# Altium integrated library Analog Devices Data Converters Analog-to-Digital Converters.IntLib: 2400 symbols (part 253 of 338)
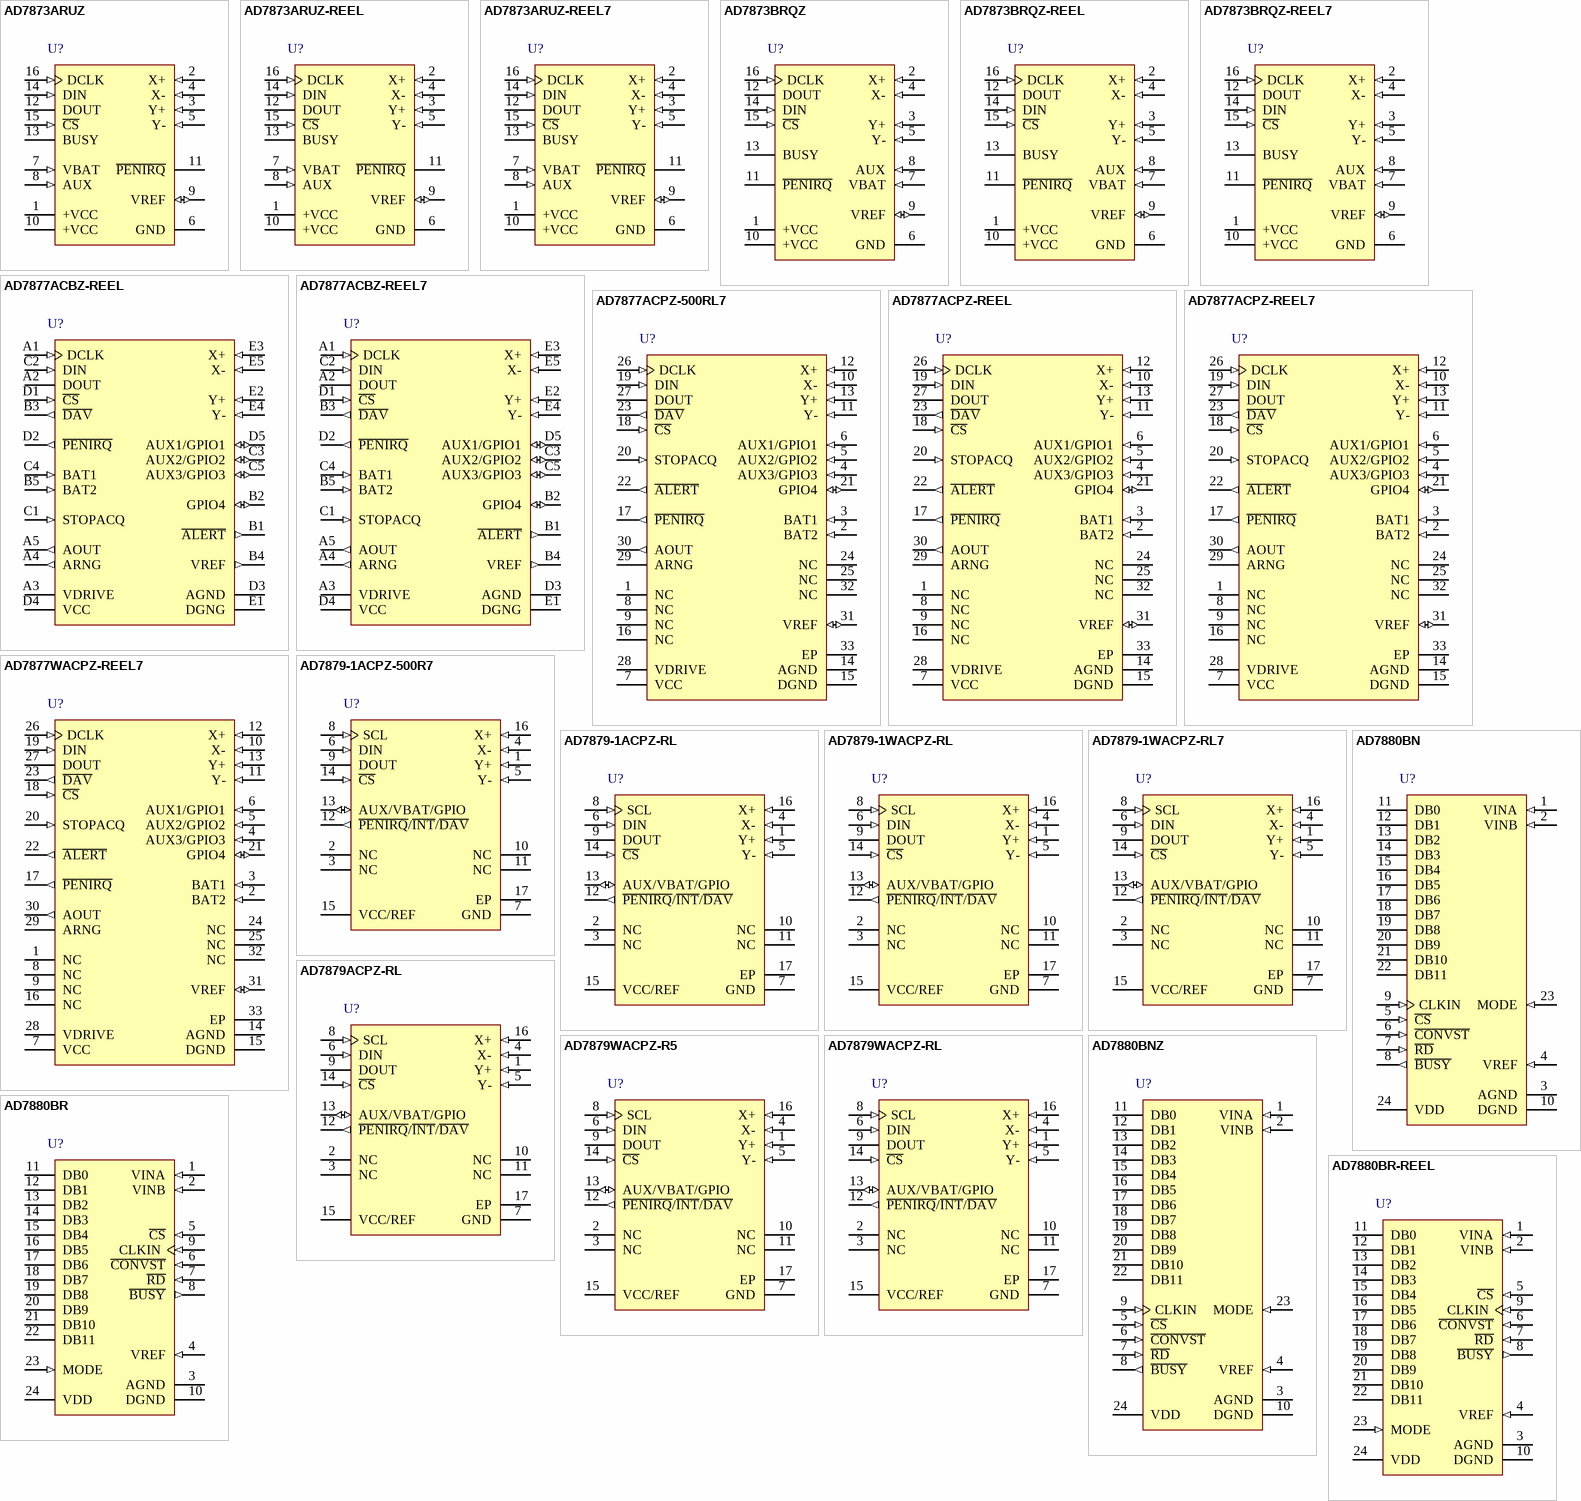
[diagram p292: symbols AD7873ARUZ to AD7880BR-REEL]

## AD7877ACPZ-REEL
designator U?
Touch Screen Controller, 125KSPS, -40 to +85 degC, CP-32-2, Pb-Free, Reel; Part Number: AD7877; Manufacturer: Analog Devices; Resolution (Bits): 12; Channels: 9; Throughput Rate (SPS): 125K; Interface: Ser; DatasheetVersion: Rev.D; PackageVersion: Jan-2005; PackageReference: CP-32-2; PackageDescription: 32-Lead Lead Frame Chip Scale Package [LFCSP_VQ] 5 x 5 mm Body, Very Thin Quad; RoHS: Y; Packing: Reel; Mounting Technology: Surface Mount; Code_JEDEC: MO-220-VHHD-2; ComponentLink1Description: Manufacturer URL; ComponentLink1URL: http://www.analog.com/en/index.html; ComponentLink2Description: Datasheet; ComponentLink2URL: http://www.analog.com/static/imported-files/data_sheets/AD7877.pdf; ComponentLink3Description: Package Specification; ComponentLink3URL: http://www.analog.com/static/imported-files/packages/414143737956480539664569CP_32_2.pdf; ComponentLink4Description: Product URL; ComponentLink4URL: http://www.analog.com/en/analog-to-digital-converters/ad-converters/ad7877/products/product.html
footprint CP-32-2_N (QFN, 32-Leads, Body 5x5mm, Pitch 0.5mm, Thermal Pad 3.1x3.1mm, IPC Medium Density)
footprint CP-32-2_L (QFN, 32-Leads, Body 5x5mm, Pitch 0.5mm, Thermal Pad 3.1x3.1mm, IPC High Density)
footprint CP-32-2_M (QFN, 32-Leads, Body 5x5mm, Pitch 0.5mm, Thermal Pad 3.1x3.1mm, IPC Low Density)
pins: 1 NC "No Connect.", 2 BAT2 (in) "Battery Monitor Input. ADC Input Channel 7.", 3 BAT1 (in) "Battery Monitor Input. ADC Input Channel 6.", 4 AUX3/GPIO3 (in) "Auxiliary Analog Input. ADC Input Channel 5. Can be reconfigured as GPIO pin.", 5 AUX2/GPIO2 (in) "Auxiliary Analog Input. ADC Input Channel 4. Can be reconfigured as GPIO pin.", 6 AUX1/GPIO1 (in) "Auxiliary Analog Input. ADC Input Channel 3. Can be reconfigured as GPIO pin.", 7 VCC (power) "Power Supply Input. The VCC range for the AD7877 is from 2.2 V to 5.25 V.", 8 NC "No Connect.", 9 NC "No Connect.", 10 X- (in) "Touch Screen Position Input.", 11 Y- (in) "Touch Screen Position Input. ADC Input Channel 2.", 12 X+ (in) "Touch Screen Position Input. ADC Input Channel 0.", 13 Y+ (in) "Touch Screen Position Input. ADC Input Channel 1.", 14 AGND (power) "Analog Ground. Ground reference point for all analog circuitry on the AD7877. All analog input signals and any external reference signal should be referred to this voltage.", 15 DGND (power) "Digital Ground. Ground reference for all digital circuitry on the AD7877. Refer all digital input signals to this voltage.", 16 NC "No Connect.", 17 ~{PENIRQ} (out) "Pen Interrupt. Digital active low output (has a 50 k ohm internal pull-up resistor).", 18 ~{CS} (in) "Chip Select Input. Active low logic input. This input provides the dual function of initiating conversions on the AD7877 and enabling the serial input/output register.", 19 DIN (in) "SPI® Serial Data Input. Data to be written to the AD7877 registers are provided on this input and clocked into the register on the rising edge of DCLK.", 20 STOPACQ (in) "Stop Acquisition Pin. A signal applied to this pin can be monitored by the AD7877, so that acquisition of new data by the ADC is halted while the signal is active. Used to reduce the effect of noise from an LCD screen on the (See Datasheet)", 21 GPIO4 (io) "Dedicated General-Purpose Logic Input/Output Pin.", 22 ~{ALERT} (out) "Digital Active Low Output. Interrupt output that goes low if a GPIO data bit is set, or if the AUX1, TEMP1, BAT1, or BAT2 measurements are out of range.", 23 ~{DAV} (out) "Data Available Output. Active low logic output. Asserts low when new data is available in the AD7877 results registers.", 24 NC "No Connect.", 25 NC "No Connect.", 26 DCLK (in) "External Clock Input. Logic input. DCLK provides the serial clock for accessing data from the part.", 27 DOUT (hiz) "Serial Data Output. Logic output. The conversion result from the AD7877 is provided on this output as a serial data stream. The bits are clocked out on the falling edge of the DCLK input. This output is high impedance when (See Datasheet)", 28 VDRIVE (power) "Logic Power Supply Input. The voltage supplied at this pin determines the operating voltage for the serial interface of the AD7877.", 29 ARNG "When the DAC is in current output mode, a resistor from ARNG to GND sets the output range.", 30 AOUT (out) "Analog Output Voltage or Current from DAC.", 31 VREF (io) "Reference Output for the AD7877. The internal 2.5 V reference is available on this pin for use external to the device. The reference output must be buffered before it is applied elsewhere in a system. To reduce system noise (See Datasheet)", 32 NC "No Connect.", 33 EP (power) "Exposed Paddle."

## AD7877ACPZ-REEL7
designator U?
Touch Screen Controller, 125KSPS, -40 to +85 degC, CP-32-2, Pb-Free, Reel; Part Number: AD7877; Manufacturer: Analog Devices; Resolution (Bits): 12; Channels: 9; Throughput Rate (SPS): 125K; Interface: Ser; DatasheetVersion: Rev.D; PackageVersion: Jan-2005; PackageReference: CP-32-2; PackageDescription: 32-Lead Lead Frame Chip Scale Package [LFCSP_VQ] 5 x 5 mm Body, Very Thin Quad; RoHS: Y; Packing: Reel; Mounting Technology: Surface Mount; Code_JEDEC: MO-220-VHHD-2; ComponentLink1Description: Manufacturer URL; ComponentLink1URL: http://www.analog.com/en/index.html; ComponentLink2Description: Datasheet; ComponentLink2URL: http://www.analog.com/static/imported-files/data_sheets/AD7877.pdf; ComponentLink3Description: Package Specification; ComponentLink3URL: http://www.analog.com/static/imported-files/packages/414143737956480539664569CP_32_2.pdf; ComponentLink4Description: Product URL; ComponentLink4URL: http://www.analog.com/en/analog-to-digital-converters/ad-converters/ad7877/products/product.html
footprint CP-32-2_N (QFN, 32-Leads, Body 5x5mm, Pitch 0.5mm, Thermal Pad 3.1x3.1mm, IPC Medium Density)
footprint CP-32-2_L (QFN, 32-Leads, Body 5x5mm, Pitch 0.5mm, Thermal Pad 3.1x3.1mm, IPC High Density)
footprint CP-32-2_M (QFN, 32-Leads, Body 5x5mm, Pitch 0.5mm, Thermal Pad 3.1x3.1mm, IPC Low Density)
pins: 1 NC "No Connect.", 2 BAT2 (in) "Battery Monitor Input. ADC Input Channel 7.", 3 BAT1 (in) "Battery Monitor Input. ADC Input Channel 6.", 4 AUX3/GPIO3 (in) "Auxiliary Analog Input. ADC Input Channel 5. Can be reconfigured as GPIO pin.", 5 AUX2/GPIO2 (in) "Auxiliary Analog Input. ADC Input Channel 4. Can be reconfigured as GPIO pin.", 6 AUX1/GPIO1 (in) "Auxiliary Analog Input. ADC Input Channel 3. Can be reconfigured as GPIO pin.", 7 VCC (power) "Power Supply Input. The VCC range for the AD7877 is from 2.2 V to 5.25 V.", 8 NC "No Connect.", 9 NC "No Connect.", 10 X- (in) "Touch Screen Position Input.", 11 Y- (in) "Touch Screen Position Input. ADC Input Channel 2.", 12 X+ (in) "Touch Screen Position Input. ADC Input Channel 0.", 13 Y+ (in) "Touch Screen Position Input. ADC Input Channel 1.", 14 AGND (power) "Analog Ground. Ground reference point for all analog circuitry on the AD7877. All analog input signals and any external reference signal should be referred to this voltage.", 15 DGND (power) "Digital Ground. Ground reference for all digital circuitry on the AD7877. Refer all digital input signals to this voltage.", 16 NC "No Connect.", 17 ~{PENIRQ} (out) "Pen Interrupt. Digital active low output (has a 50 k ohm internal pull-up resistor).", 18 ~{CS} (in) "Chip Select Input. Active low logic input. This input provides the dual function of initiating conversions on the AD7877 and enabling the serial input/output register.", 19 DIN (in) "SPI® Serial Data Input. Data to be written to the AD7877 registers are provided on this input and clocked into the register on the rising edge of DCLK.", 20 STOPACQ (in) "Stop Acquisition Pin. A signal applied to this pin can be monitored by the AD7877, so that acquisition of new data by the ADC is halted while the signal is active. Used to reduce the effect of noise from an LCD screen on the (See Datasheet)", 21 GPIO4 (io) "Dedicated General-Purpose Logic Input/Output Pin.", 22 ~{ALERT} (out) "Digital Active Low Output. Interrupt output that goes low if a GPIO data bit is set, or if the AUX1, TEMP1, BAT1, or BAT2 measurements are out of range.", 23 ~{DAV} (out) "Data Available Output. Active low logic output. Asserts low when new data is available in the AD7877 results registers.", 24 NC "No Connect.", 25 NC "No Connect.", 26 DCLK (in) "External Clock Input. Logic input. DCLK provides the serial clock for accessing data from the part.", 27 DOUT (hiz) "Serial Data Output. Logic output. The conversion result from the AD7877 is provided on this output as a serial data stream. The bits are clocked out on the falling edge of the DCLK input. This output is high impedance when (See Datasheet)", 28 VDRIVE (power) "Logic Power Supply Input. The voltage supplied at this pin determines the operating voltage for the serial interface of the AD7877.", 29 ARNG "When the DAC is in current output mode, a resistor from ARNG to GND sets the output range.", 30 AOUT (out) "Analog Output Voltage or Current from DAC.", 31 VREF (io) "Reference Output for the AD7877. The internal 2.5 V reference is available on this pin for use external to the device. The reference output must be buffered before it is applied elsewhere in a system. To reduce system noise (See Datasheet)", 32 NC "No Connect.", 33 EP (power) "Exposed Paddle."

## AD7877WACPZ-REEL7
designator U?
Touch Screen Controller, 125KSPS, -40 to +85 degC, CP-32-2, Pb-Free, Reel; Part Number: AD7877; Manufacturer: Analog Devices; Resolution (Bits): 12; Channels: 9; Throughput Rate (SPS): 125K; Interface: Ser; DatasheetVersion: Rev.D; PackageVersion: Jan-2005; PackageReference: CP-32-2; PackageDescription: 32-Lead Lead Frame Chip Scale Package [LFCSP_VQ] 5 x 5 mm Body, Very Thin Quad; RoHS: Y; Packing: Reel; Mounting Technology: Surface Mount; Code_JEDEC: MO-220-VHHD-2; ComponentLink1Description: Manufacturer URL; ComponentLink1URL: http://www.analog.com/en/index.html; ComponentLink2Description: Datasheet; ComponentLink2URL: http://www.analog.com/static/imported-files/data_sheets/AD7877.pdf; ComponentLink3Description: Package Specification; ComponentLink3URL: http://www.analog.com/static/imported-files/packages/414143737956480539664569CP_32_2.pdf; ComponentLink4Description: Product URL; ComponentLink4URL: http://www.analog.com/en/analog-to-digital-converters/ad-converters/ad7877/products/product.html
footprint CP-32-2_N (QFN, 32-Leads, Body 5x5mm, Pitch 0.5mm, Thermal Pad 3.1x3.1mm, IPC Medium Density)
footprint CP-32-2_L (QFN, 32-Leads, Body 5x5mm, Pitch 0.5mm, Thermal Pad 3.1x3.1mm, IPC High Density)
footprint CP-32-2_M (QFN, 32-Leads, Body 5x5mm, Pitch 0.5mm, Thermal Pad 3.1x3.1mm, IPC Low Density)
pins: 1 NC "No Connect.", 2 BAT2 (in) "Battery Monitor Input. ADC Input Channel 7.", 3 BAT1 (in) "Battery Monitor Input. ADC Input Channel 6.", 4 AUX3/GPIO3 (in) "Auxiliary Analog Input. ADC Input Channel 5. Can be reconfigured as GPIO pin.", 5 AUX2/GPIO2 (in) "Auxiliary Analog Input. ADC Input Channel 4. Can be reconfigured as GPIO pin.", 6 AUX1/GPIO1 (in) "Auxiliary Analog Input. ADC Input Channel 3. Can be reconfigured as GPIO pin.", 7 VCC (power) "Power Supply Input. The VCC range for the AD7877 is from 2.2 V to 5.25 V.", 8 NC "No Connect.", 9 NC "No Connect.", 10 X- (in) "Touch Screen Position Input.", 11 Y- (in) "Touch Screen Position Input. ADC Input Channel 2.", 12 X+ (in) "Touch Screen Position Input. ADC Input Channel 0.", 13 Y+ (in) "Touch Screen Position Input. ADC Input Channel 1.", 14 AGND (power) "Analog Ground. Ground reference point for all analog circuitry on the AD7877. All analog input signals and any external reference signal should be referred to this voltage.", 15 DGND (power) "Digital Ground. Ground reference for all digital circuitry on the AD7877. Refer all digital input signals to this voltage.", 16 NC "No Connect.", 17 ~{PENIRQ} (out) "Pen Interrupt. Digital active low output (has a 50 k ohm internal pull-up resistor).", 18 ~{CS} (in) "Chip Select Input. Active low logic input. This input provides the dual function of initiating conversions on the AD7877 and enabling the serial input/output register.", 19 DIN (in) "SPI® Serial Data Input. Data to be written to the AD7877 registers are provided on this input and clocked into the register on the rising edge of DCLK.", 20 STOPACQ (in) "Stop Acquisition Pin. A signal applied to this pin can be monitored by the AD7877, so that acquisition of new data by the ADC is halted while the signal is active. Used to reduce the effect of noise from an LCD screen on the (See Datasheet)", 21 GPIO4 (io) "Dedicated General-Purpose Logic Input/Output Pin.", 22 ~{ALERT} (out) "Digital Active Low Output. Interrupt output that goes low if a GPIO data bit is set, or if the AUX1, TEMP1, BAT1, or BAT2 measurements are out of range.", 23 ~{DAV} (out) "Data Available Output. Active low logic output. Asserts low when new data is available in the AD7877 results registers.", 24 NC "No Connect.", 25 NC "No Connect.", 26 DCLK (in) "External Clock Input. Logic input. DCLK provides the serial clock for accessing data from the part.", 27 DOUT (hiz) "Serial Data Output. Logic output. The conversion result from the AD7877 is provided on this output as a serial data stream. The bits are clocked out on the falling edge of the DCLK input. This output is high impedance when (See Datasheet)", 28 VDRIVE (power) "Logic Power Supply Input. The voltage supplied at this pin determines the operating voltage for the serial interface of the AD7877.", 29 ARNG "When the DAC is in current output mode, a resistor from ARNG to GND sets the output range.", 30 AOUT (out) "Analog Output Voltage or Current from DAC.", 31 VREF (io) "Reference Output for the AD7877. The internal 2.5 V reference is available on this pin for use external to the device. The reference output must be buffered before it is applied elsewhere in a system. To reduce system noise (See Datasheet)", 32 NC "No Connect.", 33 EP (power) "Exposed Paddle."

## AD7879-1ACPZ-500R7
designator U?
6 Channel 12-Bit Analog-to-Digital Converter for Touch Screens with I2C/Ser 2-Wire, Serial, SPI Interface, 105KSPS, -40 to +85 degC, CP-16-10, Pb-Free, Reel; Part Number: AD7879; Manufacturer: Analog Devices; Resolution (Bits): 12; Channels: 6; Throughput Rate (SPS): 105K; Interface: I2C/Ser 2-Wire, Ser, SPI; DatasheetVersion: Rev.C; PackageVersion: 010606-0; PackageReference: CP-16-10; PackageDescription: 16-Lead Lead Frame Chip Scale Package [LFCSP_VQ] 4 x 4 mm Body, Very Thin Quad; RoHS: Y; Packing: Reel; Mounting Technology: Surface Mount; Code_JEDEC: MO-220-VGGC; ComponentLink1Description: Manufacturer URL; ComponentLink1URL: http://www.analog.com/en/index.html; ComponentLink2Description: Datasheet; ComponentLink2URL: http://www.analog.com/static/imported-files/data_sheets/AD7879_7889.pdf; ComponentLink3Description: Package Specification; ComponentLink3URL: http://www.analog.com/static/imported-files/packages/PKG_PDF/LFCSP(CP)/CP_16_10.pdf; ComponentLink4Description: Product URL; ComponentLink4URL: http://www.analog.com/en/analog-to-digital-converters/ad-converters/ad7879/products/product.html
footprint CP-16-10_N (QFN, 16-Leads, Body 4x4mm, Pitch 0.65mm, Thermal Pad 2.35x2.35mm, IPC Medium Density)
footprint CP-16-10_L (QFN, 16-Leads, Body 4x4mm, Pitch 0.65mm, Thermal Pad 2.35x2.35mm, IPC High Density)
footprint CP-16-10_M (QFN, 16-Leads, Body 4x4mm, Pitch 0.65mm, Thermal Pad 2.35x2.35mm, IPC Low Density)
pins: 1 Y+ (in) "Touch Screen Input Channel.", 2 NC "No Connect.", 3 NC "No Connect.", 4 X- (in) "Touch Screen Input Channel.", 5 Y- (in) "Touch Screen Input Channel.", 6 DIN (in) "SPI Serial Data Input to the AD7879.", 7 GND (power) "Ground. Ground reference point for all circuitry on the AD7879. All analog input signals and any external reference signal should be referred to this voltage.", 8 SCL (in) "Serial Interface Clock Input.", 9 DOUT (hiz) "SPI Serial Data Output for the AD7879.", 10 NC "No Connect.", 11 NC "No Connect.", 12 ~{PENIRQ}/~{INT}/~{DAV} (out) "Interrupt Output. This pin is asserted when the screen is touched (P\E\N\I\R\Q\), when a measurement exceeds the preprogrammed limits (I\N\T\), or when new data is available in the registers (D\A\V\). Active low, internal 50 (See Datasheet)", 13 AUX/VBAT/GPIO (io) "This pin can be programmed as an auxiliary input to the ADC (AUX), as a battery measurement input to the ADC (VBAT ), or as a general-purpose digital input/output (GPIO).", 14 ~{CS} (in) "Chip Select for the SPI Serial Interface on the AD7879. Active low.", 15 VCC/REF (power) "Power Supply Input and ADC Reference.", 16 X+ (in) "Touch Screen Input Channel.", 17 EP (power) "Exposed Pad. The exposed pad is not connected internally. For increased reliability of the solder joints and maximum thermal capability, it is recommended that the pad be soldered to the ground plane."

## AD7879-1ACPZ-RL
designator U?
6 Channel 12-Bit Analog-to-Digital Converter for Touch Screens with I2C/Ser 2-Wire, Serial, SPI Interface, 105KSPS, -40 to +85 degC, CP-16-10, Pb-Free, Reel; Part Number: AD7879; Manufacturer: Analog Devices; Resolution (Bits): 12; Channels: 6; Throughput Rate (SPS): 105K; Interface: I2C/Ser 2-Wire, Ser, SPI; DatasheetVersion: Rev.C; PackageVersion: 010606-0; PackageReference: CP-16-10; PackageDescription: 16-Lead Lead Frame Chip Scale Package [LFCSP_VQ] 4 x 4 mm Body, Very Thin Quad; RoHS: Y; Packing: Reel; Mounting Technology: Surface Mount; Code_JEDEC: MO-220-VGGC; ComponentLink1Description: Manufacturer URL; ComponentLink1URL: http://www.analog.com/en/index.html; ComponentLink2Description: Datasheet; ComponentLink2URL: http://www.analog.com/static/imported-files/data_sheets/AD7879_7889.pdf; ComponentLink3Description: Package Specification; ComponentLink3URL: http://www.analog.com/static/imported-files/packages/PKG_PDF/LFCSP(CP)/CP_16_10.pdf; ComponentLink4Description: Product URL; ComponentLink4URL: http://www.analog.com/en/analog-to-digital-converters/ad-converters/ad7879/products/product.html
footprint CP-16-10_N (QFN, 16-Leads, Body 4x4mm, Pitch 0.65mm, Thermal Pad 2.35x2.35mm, IPC Medium Density)
footprint CP-16-10_L (QFN, 16-Leads, Body 4x4mm, Pitch 0.65mm, Thermal Pad 2.35x2.35mm, IPC High Density)
footprint CP-16-10_M (QFN, 16-Leads, Body 4x4mm, Pitch 0.65mm, Thermal Pad 2.35x2.35mm, IPC Low Density)
pins: 1 Y+ (in) "Touch Screen Input Channel.", 2 NC "No Connect.", 3 NC "No Connect.", 4 X- (in) "Touch Screen Input Channel.", 5 Y- (in) "Touch Screen Input Channel.", 6 DIN (in) "SPI Serial Data Input to the AD7879.", 7 GND (power) "Ground. Ground reference point for all circuitry on the AD7879. All analog input signals and any external reference signal should be referred to this voltage.", 8 SCL (in) "Serial Interface Clock Input.", 9 DOUT (hiz) "SPI Serial Data Output for the AD7879.", 10 NC "No Connect.", 11 NC "No Connect.", 12 ~{PENIRQ}/~{INT}/~{DAV} (out) "Interrupt Output. This pin is asserted when the screen is touched (P\E\N\I\R\Q\), when a measurement exceeds the preprogrammed limits (I\N\T\), or when new data is available in the registers (D\A\V\). Active low, internal 50 (See Datasheet)", 13 AUX/VBAT/GPIO (io) "This pin can be programmed as an auxiliary input to the ADC (AUX), as a battery measurement input to the ADC (VBAT ), or as a general-purpose digital input/output (GPIO).", 14 ~{CS} (in) "Chip Select for the SPI Serial Interface on the AD7879. Active low.", 15 VCC/REF (power) "Power Supply Input and ADC Reference.", 16 X+ (in) "Touch Screen Input Channel.", 17 EP (power) "Exposed Pad. The exposed pad is not connected internally. For increased reliability of the solder joints and maximum thermal capability, it is recommended that the pad be soldered to the ground plane."

## AD7879-1WACPZ-RL
designator U?
6 Channel 12-Bit Analog-to-Digital Converter for Touch Screens with I2C/Ser 2-Wire, Serial, SPI Interface, 105KSPS, -40 to +85 degC, CP-16-10, Pb-Free, Reel; Part Number: AD7879; Manufacturer: Analog Devices; Resolution (Bits): 12; Channels: 6; Throughput Rate (SPS): 105K; Interface: I2C/Ser 2-Wire, Ser, SPI; DatasheetVersion: Rev.C; PackageVersion: 010606-0; PackageReference: CP-16-10; PackageDescription: 16-Lead Lead Frame Chip Scale Package [LFCSP_VQ] 4 x 4 mm Body, Very Thin Quad; RoHS: Y; Packing: Reel; Mounting Technology: Surface Mount; Code_JEDEC: MO-220-VGGC; ComponentLink1Description: Manufacturer URL; ComponentLink1URL: http://www.analog.com/en/index.html; ComponentLink2Description: Datasheet; ComponentLink2URL: http://www.analog.com/static/imported-files/data_sheets/AD7879_7889.pdf; ComponentLink3Description: Package Specification; ComponentLink3URL: http://www.analog.com/static/imported-files/packages/PKG_PDF/LFCSP(CP)/CP_16_10.pdf; ComponentLink4Description: Product URL; ComponentLink4URL: http://www.analog.com/en/analog-to-digital-converters/ad-converters/ad7879/products/product.html
footprint CP-16-10_N (QFN, 16-Leads, Body 4x4mm, Pitch 0.65mm, Thermal Pad 2.35x2.35mm, IPC Medium Density)
footprint CP-16-10_L (QFN, 16-Leads, Body 4x4mm, Pitch 0.65mm, Thermal Pad 2.35x2.35mm, IPC High Density)
footprint CP-16-10_M (QFN, 16-Leads, Body 4x4mm, Pitch 0.65mm, Thermal Pad 2.35x2.35mm, IPC Low Density)
pins: 1 Y+ (in) "Touch Screen Input Channel.", 2 NC "No Connect.", 3 NC "No Connect.", 4 X- (in) "Touch Screen Input Channel.", 5 Y- (in) "Touch Screen Input Channel.", 6 DIN (in) "SPI Serial Data Input to the AD7879.", 7 GND (power) "Ground. Ground reference point for all circuitry on the AD7879. All analog input signals and any external reference signal should be referred to this voltage.", 8 SCL (in) "Serial Interface Clock Input.", 9 DOUT (hiz) "SPI Serial Data Output for the AD7879.", 10 NC "No Connect.", 11 NC "No Connect.", 12 ~{PENIRQ}/~{INT}/~{DAV} (out) "Interrupt Output. This pin is asserted when the screen is touched (P\E\N\I\R\Q\), when a measurement exceeds the preprogrammed limits (I\N\T\), or when new data is available in the registers (D\A\V\). Active low, internal 50 (See Datasheet)", 13 AUX/VBAT/GPIO (io) "This pin can be programmed as an auxiliary input to the ADC (AUX), as a battery measurement input to the ADC (VBAT ), or as a general-purpose digital input/output (GPIO).", 14 ~{CS} (in) "Chip Select for the SPI Serial Interface on the AD7879. Active low.", 15 VCC/REF (power) "Power Supply Input and ADC Reference.", 16 X+ (in) "Touch Screen Input Channel.", 17 EP (power) "Exposed Pad. The exposed pad is not connected internally. For increased reliability of the solder joints and maximum thermal capability, it is recommended that the pad be soldered to the ground plane."

## AD7879-1WACPZ-RL7
designator U?
6 Channel 12-Bit Analog-to-Digital Converter for Touch Screens with I2C/Ser 2-Wire, Serial, SPI Interface, 105KSPS, -40 to +85 degC, CP-16-10, Pb-Free, Reel; Part Number: AD7879; Manufacturer: Analog Devices; Resolution (Bits): 12; Channels: 6; Throughput Rate (SPS): 105K; Interface: I2C/Ser 2-Wire, Ser, SPI; DatasheetVersion: Rev.C; PackageVersion: 010606-0; PackageReference: CP-16-10; PackageDescription: 16-Lead Lead Frame Chip Scale Package [LFCSP_VQ] 4 x 4 mm Body, Very Thin Quad; RoHS: Y; Packing: Reel; Mounting Technology: Surface Mount; Code_JEDEC: MO-220-VGGC; ComponentLink1Description: Manufacturer URL; ComponentLink1URL: http://www.analog.com/en/index.html; ComponentLink2Description: Datasheet; ComponentLink2URL: http://www.analog.com/static/imported-files/data_sheets/AD7879_7889.pdf; ComponentLink3Description: Package Specification; ComponentLink3URL: http://www.analog.com/static/imported-files/packages/PKG_PDF/LFCSP(CP)/CP_16_10.pdf; ComponentLink4Description: Product URL; ComponentLink4URL: http://www.analog.com/en/analog-to-digital-converters/ad-converters/ad7879/products/product.html
footprint CP-16-10_N (QFN, 16-Leads, Body 4x4mm, Pitch 0.65mm, Thermal Pad 2.35x2.35mm, IPC Medium Density)
footprint CP-16-10_L (QFN, 16-Leads, Body 4x4mm, Pitch 0.65mm, Thermal Pad 2.35x2.35mm, IPC High Density)
footprint CP-16-10_M (QFN, 16-Leads, Body 4x4mm, Pitch 0.65mm, Thermal Pad 2.35x2.35mm, IPC Low Density)
pins: 1 Y+ (in) "Touch Screen Input Channel.", 2 NC "No Connect.", 3 NC "No Connect.", 4 X- (in) "Touch Screen Input Channel.", 5 Y- (in) "Touch Screen Input Channel.", 6 DIN (in) "SPI Serial Data Input to the AD7879.", 7 GND (power) "Ground. Ground reference point for all circuitry on the AD7879. All analog input signals and any external reference signal should be referred to this voltage.", 8 SCL (in) "Serial Interface Clock Input.", 9 DOUT (hiz) "SPI Serial Data Output for the AD7879.", 10 NC "No Connect.", 11 NC "No Connect.", 12 ~{PENIRQ}/~{INT}/~{DAV} (out) "Interrupt Output. This pin is asserted when the screen is touched (P\E\N\I\R\Q\), when a measurement exceeds the preprogrammed limits (I\N\T\), or when new data is available in the registers (D\A\V\). Active low, internal 50 (See Datasheet)", 13 AUX/VBAT/GPIO (io) "This pin can be programmed as an auxiliary input to the ADC (AUX), as a battery measurement input to the ADC (VBAT ), or as a general-purpose digital input/output (GPIO).", 14 ~{CS} (in) "Chip Select for the SPI Serial Interface on the AD7879. Active low.", 15 VCC/REF (power) "Power Supply Input and ADC Reference.", 16 X+ (in) "Touch Screen Input Channel.", 17 EP (power) "Exposed Pad. The exposed pad is not connected internally. For increased reliability of the solder joints and maximum thermal capability, it is recommended that the pad be soldered to the ground plane."

## AD7879ACPZ-RL
designator U?
6 Channel 12-Bit Analog-to-Digital Converter for Touch Screens with I2C/Ser 2-Wire, Serial, SPI Interface, 105KSPS, -40 to +85 degC, CP-16-10, Pb-Free, Reel; Part Number: AD7879; Manufacturer: Analog Devices; Resolution (Bits): 12; Channels: 6; Throughput Rate (SPS): 105K; Interface: I2C/Ser 2-Wire, Ser, SPI; DatasheetVersion: Rev.C; PackageVersion: 010606-0; PackageReference: CP-16-10; PackageDescription: 16-Lead Lead Frame Chip Scale Package [LFCSP_VQ] 4 x 4 mm Body, Very Thin Quad; RoHS: Y; Packing: Reel; Mounting Technology: Surface Mount; Code_JEDEC: MO-220-VGGC; ComponentLink1Description: Manufacturer URL; ComponentLink1URL: http://www.analog.com/en/index.html; ComponentLink2Description: Datasheet; ComponentLink2URL: http://www.analog.com/static/imported-files/data_sheets/AD7879_7889.pdf; ComponentLink3Description: Package Specification; ComponentLink3URL: http://www.analog.com/static/imported-files/packages/PKG_PDF/LFCSP(CP)/CP_16_10.pdf; ComponentLink4Description: Product URL; ComponentLink4URL: http://www.analog.com/en/analog-to-digital-converters/ad-converters/ad7879/products/product.html
footprint CP-16-10_N (QFN, 16-Leads, Body 4x4mm, Pitch 0.65mm, Thermal Pad 2.35x2.35mm, IPC Medium Density)
footprint CP-16-10_L (QFN, 16-Leads, Body 4x4mm, Pitch 0.65mm, Thermal Pad 2.35x2.35mm, IPC High Density)
footprint CP-16-10_M (QFN, 16-Leads, Body 4x4mm, Pitch 0.65mm, Thermal Pad 2.35x2.35mm, IPC Low Density)
pins: 1 Y+ (in) "Touch Screen Input Channel.", 2 NC "No Connect.", 3 NC "No Connect.", 4 X- (in) "Touch Screen Input Channel.", 5 Y- (in) "Touch Screen Input Channel.", 6 DIN (in) "SPI Serial Data Input to the AD7879.", 7 GND (power) "Ground. Ground reference point for all circuitry on the AD7879. All analog input signals and any external reference signal should be referred to this voltage.", 8 SCL (in) "Serial Interface Clock Input.", 9 DOUT (hiz) "SPI Serial Data Output for the AD7879.", 10 NC "No Connect.", 11 NC "No Connect.", 12 ~{PENIRQ}/~{INT}/~{DAV} (out) "Interrupt Output. This pin is asserted when the screen is touched (P\E\N\I\R\Q\), when a measurement exceeds the preprogrammed limits (I\N\T\), or when new data is available in the registers (D\A\V\). Active low, internal 50 (See Datasheet)", 13 AUX/VBAT/GPIO (io) "This pin can be programmed as an auxiliary input to the ADC (AUX), as a battery measurement input to the ADC (VBAT ), or as a general-purpose digital input/output (GPIO).", 14 ~{CS} (in) "Chip Select for the SPI Serial Interface on the AD7879. Active low.", 15 VCC/REF (power) "Power Supply Input and ADC Reference.", 16 X+ (in) "Touch Screen Input Channel.", 17 EP (power) "Exposed Pad. The exposed pad is not connected internally. For increased reliability of the solder joints and maximum thermal capability, it is recommended that the pad be soldered to the ground plane."

## AD7879WACPZ-R5
designator U?
6 Channel 12-Bit Analog-to-Digital Converter for Touch Screens with I2C/Ser 2-Wire, Serial, SPI Interface, 105KSPS, -40 to +85 degC, CP-16-10, Pb-Free, Reel; Part Number: AD7879; Manufacturer: Analog Devices; Resolution (Bits): 12; Channels: 6; Throughput Rate (SPS): 105K; Interface: I2C/Ser 2-Wire, Ser, SPI; DatasheetVersion: Rev.C; PackageVersion: 010606-0; PackageReference: CP-16-10; PackageDescription: 16-Lead Lead Frame Chip Scale Package [LFCSP_VQ] 4 x 4 mm Body, Very Thin Quad; RoHS: Y; Packing: Reel; Mounting Technology: Surface Mount; Code_JEDEC: MO-220-VGGC; ComponentLink1Description: Manufacturer URL; ComponentLink1URL: http://www.analog.com/en/index.html; ComponentLink2Description: Datasheet; ComponentLink2URL: http://www.analog.com/static/imported-files/data_sheets/AD7879_7889.pdf; ComponentLink3Description: Package Specification; ComponentLink3URL: http://www.analog.com/static/imported-files/packages/PKG_PDF/LFCSP(CP)/CP_16_10.pdf; ComponentLink4Description: Product URL; ComponentLink4URL: http://www.analog.com/en/analog-to-digital-converters/ad-converters/ad7879/products/product.html
footprint CP-16-10_N (QFN, 16-Leads, Body 4x4mm, Pitch 0.65mm, Thermal Pad 2.35x2.35mm, IPC Medium Density)
footprint CP-16-10_L (QFN, 16-Leads, Body 4x4mm, Pitch 0.65mm, Thermal Pad 2.35x2.35mm, IPC High Density)
footprint CP-16-10_M (QFN, 16-Leads, Body 4x4mm, Pitch 0.65mm, Thermal Pad 2.35x2.35mm, IPC Low Density)
pins: 1 Y+ (in) "Touch Screen Input Channel.", 2 NC "No Connect.", 3 NC "No Connect.", 4 X- (in) "Touch Screen Input Channel.", 5 Y- (in) "Touch Screen Input Channel.", 6 DIN (in) "SPI Serial Data Input to the AD7879.", 7 GND (power) "Ground. Ground reference point for all circuitry on the AD7879. All analog input signals and any external reference signal should be referred to this voltage.", 8 SCL (in) "Serial Interface Clock Input.", 9 DOUT (hiz) "SPI Serial Data Output for the AD7879.", 10 NC "No Connect.", 11 NC "No Connect.", 12 ~{PENIRQ}/~{INT}/~{DAV} (out) "Interrupt Output. This pin is asserted when the screen is touched (P\E\N\I\R\Q\), when a measurement exceeds the preprogrammed limits (I\N\T\), or when new data is available in the registers (D\A\V\). Active low, internal 50 (See Datasheet)", 13 AUX/VBAT/GPIO (io) "This pin can be programmed as an auxiliary input to the ADC (AUX), as a battery measurement input to the ADC (VBAT ), or as a general-purpose digital input/output (GPIO).", 14 ~{CS} (in) "Chip Select for the SPI Serial Interface on the AD7879. Active low.", 15 VCC/REF (power) "Power Supply Input and ADC Reference.", 16 X+ (in) "Touch Screen Input Channel.", 17 EP (power) "Exposed Pad. The exposed pad is not connected internally. For increased reliability of the solder joints and maximum thermal capability, it is recommended that the pad be soldered to the ground plane."

## AD7879WACPZ-RL
designator U?
6 Channel 12-Bit Analog-to-Digital Converter for Touch Screens with I2C/Ser 2-Wire, Serial, SPI Interface, 105KSPS, -40 to +85 degC, CP-16-10, Pb-Free, Reel; Part Number: AD7879; Manufacturer: Analog Devices; Resolution (Bits): 12; Channels: 6; Throughput Rate (SPS): 105K; Interface: I2C/Ser 2-Wire, Ser, SPI; DatasheetVersion: Rev.C; PackageVersion: 010606-0; PackageReference: CP-16-10; PackageDescription: 16-Lead Lead Frame Chip Scale Package [LFCSP_VQ] 4 x 4 mm Body, Very Thin Quad; RoHS: Y; Packing: Reel; Mounting Technology: Surface Mount; Code_JEDEC: MO-220-VGGC; ComponentLink1Description: Manufacturer URL; ComponentLink1URL: http://www.analog.com/en/index.html; ComponentLink2Description: Datasheet; ComponentLink2URL: http://www.analog.com/static/imported-files/data_sheets/AD7879_7889.pdf; ComponentLink3Description: Package Specification; ComponentLink3URL: http://www.analog.com/static/imported-files/packages/PKG_PDF/LFCSP(CP)/CP_16_10.pdf; ComponentLink4Description: Product URL; ComponentLink4URL: http://www.analog.com/en/analog-to-digital-converters/ad-converters/ad7879/products/product.html
footprint CP-16-10_N (QFN, 16-Leads, Body 4x4mm, Pitch 0.65mm, Thermal Pad 2.35x2.35mm, IPC Medium Density)
footprint CP-16-10_L (QFN, 16-Leads, Body 4x4mm, Pitch 0.65mm, Thermal Pad 2.35x2.35mm, IPC High Density)
footprint CP-16-10_M (QFN, 16-Leads, Body 4x4mm, Pitch 0.65mm, Thermal Pad 2.35x2.35mm, IPC Low Density)
pins: 1 Y+ (in) "Touch Screen Input Channel.", 2 NC "No Connect.", 3 NC "No Connect.", 4 X- (in) "Touch Screen Input Channel.", 5 Y- (in) "Touch Screen Input Channel.", 6 DIN (in) "SPI Serial Data Input to the AD7879.", 7 GND (power) "Ground. Ground reference point for all circuitry on the AD7879. All analog input signals and any external reference signal should be referred to this voltage.", 8 SCL (in) "Serial Interface Clock Input.", 9 DOUT (hiz) "SPI Serial Data Output for the AD7879.", 10 NC "No Connect.", 11 NC "No Connect.", 12 ~{PENIRQ}/~{INT}/~{DAV} (out) "Interrupt Output. This pin is asserted when the screen is touched (P\E\N\I\R\Q\), when a measurement exceeds the preprogrammed limits (I\N\T\), or when new data is available in the registers (D\A\V\). Active low, internal 50 (See Datasheet)", 13 AUX/VBAT/GPIO (io) "This pin can be programmed as an auxiliary input to the ADC (AUX), as a battery measurement input to the ADC (VBAT ), or as a general-purpose digital input/output (GPIO).", 14 ~{CS} (in) "Chip Select for the SPI Serial Interface on the AD7879. Active low.", 15 VCC/REF (power) "Power Supply Input and ADC Reference.", 16 X+ (in) "Touch Screen Input Channel.", 17 EP (power) "Exposed Pad. The exposed pad is not connected internally. For increased reliability of the solder joints and maximum thermal capability, it is recommended that the pad be soldered to the ground plane."

## AD7880BN
designator U?
Single 12-Bit Sampling Low Power Analog-to-Digital Converter with Parallel Interface, LC2MOS, LC2MOS Single +5 V 66KSPS, -40 to +85 degC, N-24-1, Tube; Part Number: AD7880; Manufacturer: Analog Devices; Resolution (Bits): 12; Channels: 1; Throughput Rate (SPS): 66K; Interface: Par; DatasheetVersion: Rev.0; PackageVersion: 071006-A; PackageReference: N-24-1; PackageDescription: 24-Lead Plastic Dual In-Line Package [PDIP] Narrow Body; RoHS: N; Packing: Tube; Mounting Technology: Through-hole; Code_JEDEC: MS-001; ComponentLink1Description: Manufacturer URL; ComponentLink1URL: http://www.analog.com/en/index.html; ComponentLink2Description: Datasheet; ComponentLink2URL: http://www.analog.com/static/imported-files/data_sheets/AD7880.pdf; ComponentLink3Description: Package Specification; ComponentLink3URL: http://www.analog.com/static/imported-files/packages/50726455539629N_24_1.pdf; ComponentLink4Description: Product URL; ComponentLink4URL: http://www.analog.com/en/analog-to-digital-converters/ad-converters/ad7880/products/product.html
footprint N-24-1 (DIP, 24-Leads, Row Spacing 7.62mm, Pitch 2.54mm, Body 31.9x6.6mm)
pins: 1 VINA (in) "Analog Input.", 2 VINB (in) "Analog Input.", 3 AGND (power) "Analog Ground.", 4 VREF (in) "Voltage Reference Input. This is normally tied to VDD.", 5 ~{CS} (in) "Chip Select. Active Low Logic input. The device is selected when this input is active.", 6 ~{CONVST} (in) "Convert Start. A low to high transition on this input puts the track/hold into hold mode and starts conversion. This input is asynchronous to the CLKIN and is independent of C\S\ and R\D\.", 7 ~{RD} (in) "Read. Active Low Logic Input. This input is used in conjunction with C\S\ low to enable data outputs", 8 ~{BUSY} (out) "Active Low Logic Output. This status line indicates converter status. B\U\S\Y\ is low during conversion.", 9 CLKIN (in) "Clock Input. TTL-compatible logic input. Used as the clock source for the A/D converter. The mark/space ratio of the clock can vary from 40/60 to 60/40.", 10 DGND (power) "Digital Ground.", 11 DB0 (hiz) "Three-State Data Outputs. These become active when C\S\ and R\D\ are brought low.", 12 DB1 (hiz) "Three-State Data Outputs. These become active when C\S\ and R\D\ are brought low.", 13 DB2 (hiz) "Three-State Data Outputs. These become active when C\S\ and R\D\ are brought low.", 14 DB3 (hiz) "Three-State Data Outputs. These become active when C\S\ and R\D\ are brought low.", 15 DB4 (hiz) "Three-State Data Outputs. These become active when C\S\ and R\D\ are brought low.", 16 DB5 (hiz) "Three-State Data Outputs. These become active when C\S\ and R\D\ are brought low.", 17 DB6 (hiz) "Three-State Data Outputs. These become active when C\S\ and R\D\ are brought low.", 18 DB7 (hiz) "Three-State Data Outputs. These become active when C\S\ and R\D\ are brought low.", 19 DB8 (hiz) "Three-State Data Outputs. These become active when C\S\ and R\D\ are brought low.", 20 DB9 (hiz) "Three-State Data Outputs. These become active when C\S\ and R\D\ are brought low.", 21 DB10 (hiz) "Three-State Data Outputs. These become active when C\S\ and R\D\ are brought low.", 22 DB11 (hiz) "Three-State Data Outputs. These become active when C\S\ and R\D\ are brought low.", 23 MODE (in) "MODE Input. This input is used to put the device into the power save mode (MODE = 0 V). During normal operation, the MODE input will be a logic high (MODE = VDD).", 24 VDD (power) "Power Supply. This is nominally +5 V."

## AD7880BNZ
designator U?
Single 12-Bit Sampling Low Power Analog-to-Digital Converter with Parallel Interface, LC2MOS, LC2MOS Single +5 V 66KSPS, -40 to +85 degC, N-24-1, Pb-Free, Tube; Part Number: AD7880; Manufacturer: Analog Devices; Resolution (Bits): 12; Channels: 1; Throughput Rate (SPS): 66K; Interface: Par; DatasheetVersion: Rev.0; PackageVersion: 071006-A; PackageReference: N-24-1; PackageDescription: 24-Lead Plastic Dual In-Line Package [PDIP] Narrow Body; RoHS: Y; Packing: Tube; Mounting Technology: Through-hole; Code_JEDEC: MS-001; ComponentLink1Description: Manufacturer URL; ComponentLink1URL: http://www.analog.com/en/index.html; ComponentLink2Description: Datasheet; ComponentLink2URL: http://www.analog.com/static/imported-files/data_sheets/AD7880.pdf; ComponentLink3Description: Package Specification; ComponentLink3URL: http://www.analog.com/static/imported-files/packages/50726455539629N_24_1.pdf; ComponentLink4Description: Product URL; ComponentLink4URL: http://www.analog.com/en/analog-to-digital-converters/ad-converters/ad7880/products/product.html
footprint N-24-1 (DIP, 24-Leads, Row Spacing 7.62mm, Pitch 2.54mm, Body 31.9x6.6mm)
pins: 1 VINA (in) "Analog Input.", 2 VINB (in) "Analog Input.", 3 AGND (power) "Analog Ground.", 4 VREF (in) "Voltage Reference Input. This is normally tied to VDD.", 5 ~{CS} (in) "Chip Select. Active Low Logic input. The device is selected when this input is active.", 6 ~{CONVST} (in) "Convert Start. A low to high transition on this input puts the track/hold into hold mode and starts conversion. This input is asynchronous to the CLKIN and is independent of C\S\ and R\D\.", 7 ~{RD} (in) "Read. Active Low Logic Input. This input is used in conjunction with C\S\ low to enable data outputs", 8 ~{BUSY} (out) "Active Low Logic Output. This status line indicates converter status. B\U\S\Y\ is low during conversion.", 9 CLKIN (in) "Clock Input. TTL-compatible logic input. Used as the clock source for the A/D converter. The mark/space ratio of the clock can vary from 40/60 to 60/40.", 10 DGND (power) "Digital Ground.", 11 DB0 (hiz) "Three-State Data Outputs. These become active when C\S\ and R\D\ are brought low.", 12 DB1 (hiz) "Three-State Data Outputs. These become active when C\S\ and R\D\ are brought low.", 13 DB2 (hiz) "Three-State Data Outputs. These become active when C\S\ and R\D\ are brought low.", 14 DB3 (hiz) "Three-State Data Outputs. These become active when C\S\ and R\D\ are brought low.", 15 DB4 (hiz) "Three-State Data Outputs. These become active when C\S\ and R\D\ are brought low.", 16 DB5 (hiz) "Three-State Data Outputs. These become active when C\S\ and R\D\ are brought low.", 17 DB6 (hiz) "Three-State Data Outputs. These become active when C\S\ and R\D\ are brought low.", 18 DB7 (hiz) "Three-State Data Outputs. These become active when C\S\ and R\D\ are brought low.", 19 DB8 (hiz) "Three-State Data Outputs. These become active when C\S\ and R\D\ are brought low.", 20 DB9 (hiz) "Three-State Data Outputs. These become active when C\S\ and R\D\ are brought low.", 21 DB10 (hiz) "Three-State Data Outputs. These become active when C\S\ and R\D\ are brought low.", 22 DB11 (hiz) "Three-State Data Outputs. These become active when C\S\ and R\D\ are brought low.", 23 MODE (in) "MODE Input. This input is used to put the device into the power save mode (MODE = 0 V). During normal operation, the MODE input will be a logic high (MODE = VDD).", 24 VDD (power) "Power Supply. This is nominally +5 V."

## AD7880BR
designator U?
Single 12-Bit Sampling Low Power Analog-to-Digital Converter with Parallel Interface, LC2MOS, LC2MOS Single +5 V 66KSPS, -40 to +85 degC, RW-24, Tube; Part Number: AD7880; Manufacturer: Analog Devices; Resolution (Bits): 12; Channels: 1; Throughput Rate (SPS): 66K; Interface: Par; DatasheetVersion: Rev.0; PackageVersion: 060706-A; PackageReference: RW-24; PackageDescription: 24-Lead Standard Small Outline Package [SOIC_W]; RoHS: N; Packing: Tube; Mounting Technology: Surface Mount; Code_JEDEC: MS-013-AD; ComponentLink1Description: Manufacturer URL; ComponentLink1URL: http://www.analog.com/en/index.html; ComponentLink2Description: Datasheet; ComponentLink2URL: http://www.analog.com/static/imported-files/data_sheets/AD7880.pdf; ComponentLink3Description: Package Specification; ComponentLink3URL: http://www.analog.com/static/imported-files/packages/33665150946139RW_24.pdf; ComponentLink4Description: Product URL; ComponentLink4URL: http://www.analog.com/en/analog-to-digital-converters/ad-converters/ad7880/products/product.html
footprint RW-24_N (SOIC, 24-Leads, Body 15.4x7.5mm, Pitch 1.27mm, IPC Medium Density)
footprint RW-24_L (SOIC, 24-Leads, Body 15.4x7.5mm, Pitch 1.27mm, IPC High Density)
footprint RW-24_M (SOIC, 24-Leads, Body 15.4x7.5mm, Pitch 1.27mm, IPC Low Density)
pins: 1 VINA (in) "Analog Input.", 2 VINB (in) "Analog Input.", 3 AGND (power) "Analog Ground.", 4 VREF (in) "Voltage Reference Input. This is normally tied to VDD.", 5 ~{CS} (in) "Chip Select. Active Low Logic input. The device is selected when this input is active.", 6 ~{CONVST} (in) "Convert Start. A low to high transition on this input puts the track/hold into hold mode and starts conversion. This input is asynchronous to the CLKIN and is independent of C\S\ and R\D\.", 7 ~{RD} (in) "Read. Active Low Logic Input. This input is used in conjunction with C\S\ low to enable data outputs", 8 ~{BUSY} (out) "Active Low Logic Output. This status line indicates converter status. B\U\S\Y\ is low during conversion.", 9 CLKIN (in) "Clock Input. TTL-compatible logic input. Used as the clock source for the A/D converter. The mark/space ratio of the clock can vary from 40/60 to 60/40.", 10 DGND (power) "Digital Ground.", 11 DB0 (hiz) "Three-State Data Outputs. These become active when C\S\ and R\D\ are brought low.", 12 DB1 (hiz) "Three-State Data Outputs. These become active when C\S\ and R\D\ are brought low.", 13 DB2 (hiz) "Three-State Data Outputs. These become active when C\S\ and R\D\ are brought low.", 14 DB3 (hiz) "Three-State Data Outputs. These become active when C\S\ and R\D\ are brought low.", 15 DB4 (hiz) "Three-State Data Outputs. These become active when C\S\ and R\D\ are brought low.", 16 DB5 (hiz) "Three-State Data Outputs. These become active when C\S\ and R\D\ are brought low.", 17 DB6 (hiz) "Three-State Data Outputs. These become active when C\S\ and R\D\ are brought low.", 18 DB7 (hiz) "Three-State Data Outputs. These become active when C\S\ and R\D\ are brought low.", 19 DB8 (hiz) "Three-State Data Outputs. These become active when C\S\ and R\D\ are brought low.", 20 DB9 (hiz) "Three-State Data Outputs. These become active when C\S\ and R\D\ are brought low.", 21 DB10 (hiz) "Three-State Data Outputs. These become active when C\S\ and R\D\ are brought low.", 22 DB11 (hiz) "Three-State Data Outputs. These become active when C\S\ and R\D\ are brought low.", 23 MODE (in) "MODE Input. This input is used to put the device into the power save mode (MODE = 0 V). During normal operation, the MODE input will be a logic high (MODE = VDD).", 24 VDD (power) "Power Supply. This is nominally +5 V."

## AD7880BR-REEL
designator U?
Single 12-Bit Sampling Low Power Analog-to-Digital Converter with Parallel Interface, LC2MOS, LC2MOS Single +5 V 66KSPS, -40 to +85 degC, RW-24, Reel; Part Number: AD7880; Manufacturer: Analog Devices; Resolution (Bits): 12; Channels: 1; Throughput Rate (SPS): 66K; Interface: Par; DatasheetVersion: Rev.0; PackageVersion: 060706-A; PackageReference: RW-24; PackageDescription: 24-Lead Standard Small Outline Package [SOIC_W]; RoHS: N; Packing: Reel; Mounting Technology: Surface Mount; Code_JEDEC: MS-013-AD; ComponentLink1Description: Manufacturer URL; ComponentLink1URL: http://www.analog.com/en/index.html; ComponentLink2Description: Datasheet; ComponentLink2URL: http://www.analog.com/static/imported-files/data_sheets/AD7880.pdf; ComponentLink3Description: Package Specification; ComponentLink3URL: http://www.analog.com/static/imported-files/packages/33665150946139RW_24.pdf; ComponentLink4Description: Product URL; ComponentLink4URL: http://www.analog.com/en/analog-to-digital-converters/ad-converters/ad7880/products/product.html
footprint RW-24_N (SOIC, 24-Leads, Body 15.4x7.5mm, Pitch 1.27mm, IPC Medium Density)
footprint RW-24_L (SOIC, 24-Leads, Body 15.4x7.5mm, Pitch 1.27mm, IPC High Density)
footprint RW-24_M (SOIC, 24-Leads, Body 15.4x7.5mm, Pitch 1.27mm, IPC Low Density)
pins: 1 VINA (in) "Analog Input.", 2 VINB (in) "Analog Input.", 3 AGND (power) "Analog Ground.", 4 VREF (in) "Voltage Reference Input. This is normally tied to VDD.", 5 ~{CS} (in) "Chip Select. Active Low Logic input. The device is selected when this input is active.", 6 ~{CONVST} (in) "Convert Start. A low to high transition on this input puts the track/hold into hold mode and starts conversion. This input is asynchronous to the CLKIN and is independent of C\S\ and R\D\.", 7 ~{RD} (in) "Read. Active Low Logic Input. This input is used in conjunction with C\S\ low to enable data outputs", 8 ~{BUSY} (out) "Active Low Logic Output. This status line indicates converter status. B\U\S\Y\ is low during conversion.", 9 CLKIN (in) "Clock Input. TTL-compatible logic input. Used as the clock source for the A/D converter. The mark/space ratio of the clock can vary from 40/60 to 60/40.", 10 DGND (power) "Digital Ground.", 11 DB0 (hiz) "Three-State Data Outputs. These become active when C\S\ and R\D\ are brought low.", 12 DB1 (hiz) "Three-State Data Outputs. These become active when C\S\ and R\D\ are brought low.", 13 DB2 (hiz) "Three-State Data Outputs. These become active when C\S\ and R\D\ are brought low.", 14 DB3 (hiz) "Three-State Data Outputs. These become active when C\S\ and R\D\ are brought low.", 15 DB4 (hiz) "Three-State Data Outputs. These become active when C\S\ and R\D\ are brought low.", 16 DB5 (hiz) "Three-State Data Outputs. These become active when C\S\ and R\D\ are brought low.", 17 DB6 (hiz) "Three-State Data Outputs. These become active when C\S\ and R\D\ are brought low.", 18 DB7 (hiz) "Three-State Data Outputs. These become active when C\S\ and R\D\ are brought low.", 19 DB8 (hiz) "Three-State Data Outputs. These become active when C\S\ and R\D\ are brought low.", 20 DB9 (hiz) "Three-State Data Outputs. These become active when C\S\ and R\D\ are brought low.", 21 DB10 (hiz) "Three-State Data Outputs. These become active when C\S\ and R\D\ are brought low.", 22 DB11 (hiz) "Three-State Data Outputs. These become active when C\S\ and R\D\ are brought low.", 23 MODE (in) "MODE Input. This input is used to put the device into the power save mode (MODE = 0 V). During normal operation, the MODE input will be a logic high (MODE = VDD).", 24 VDD (power) "Power Supply. This is nominally +5 V."

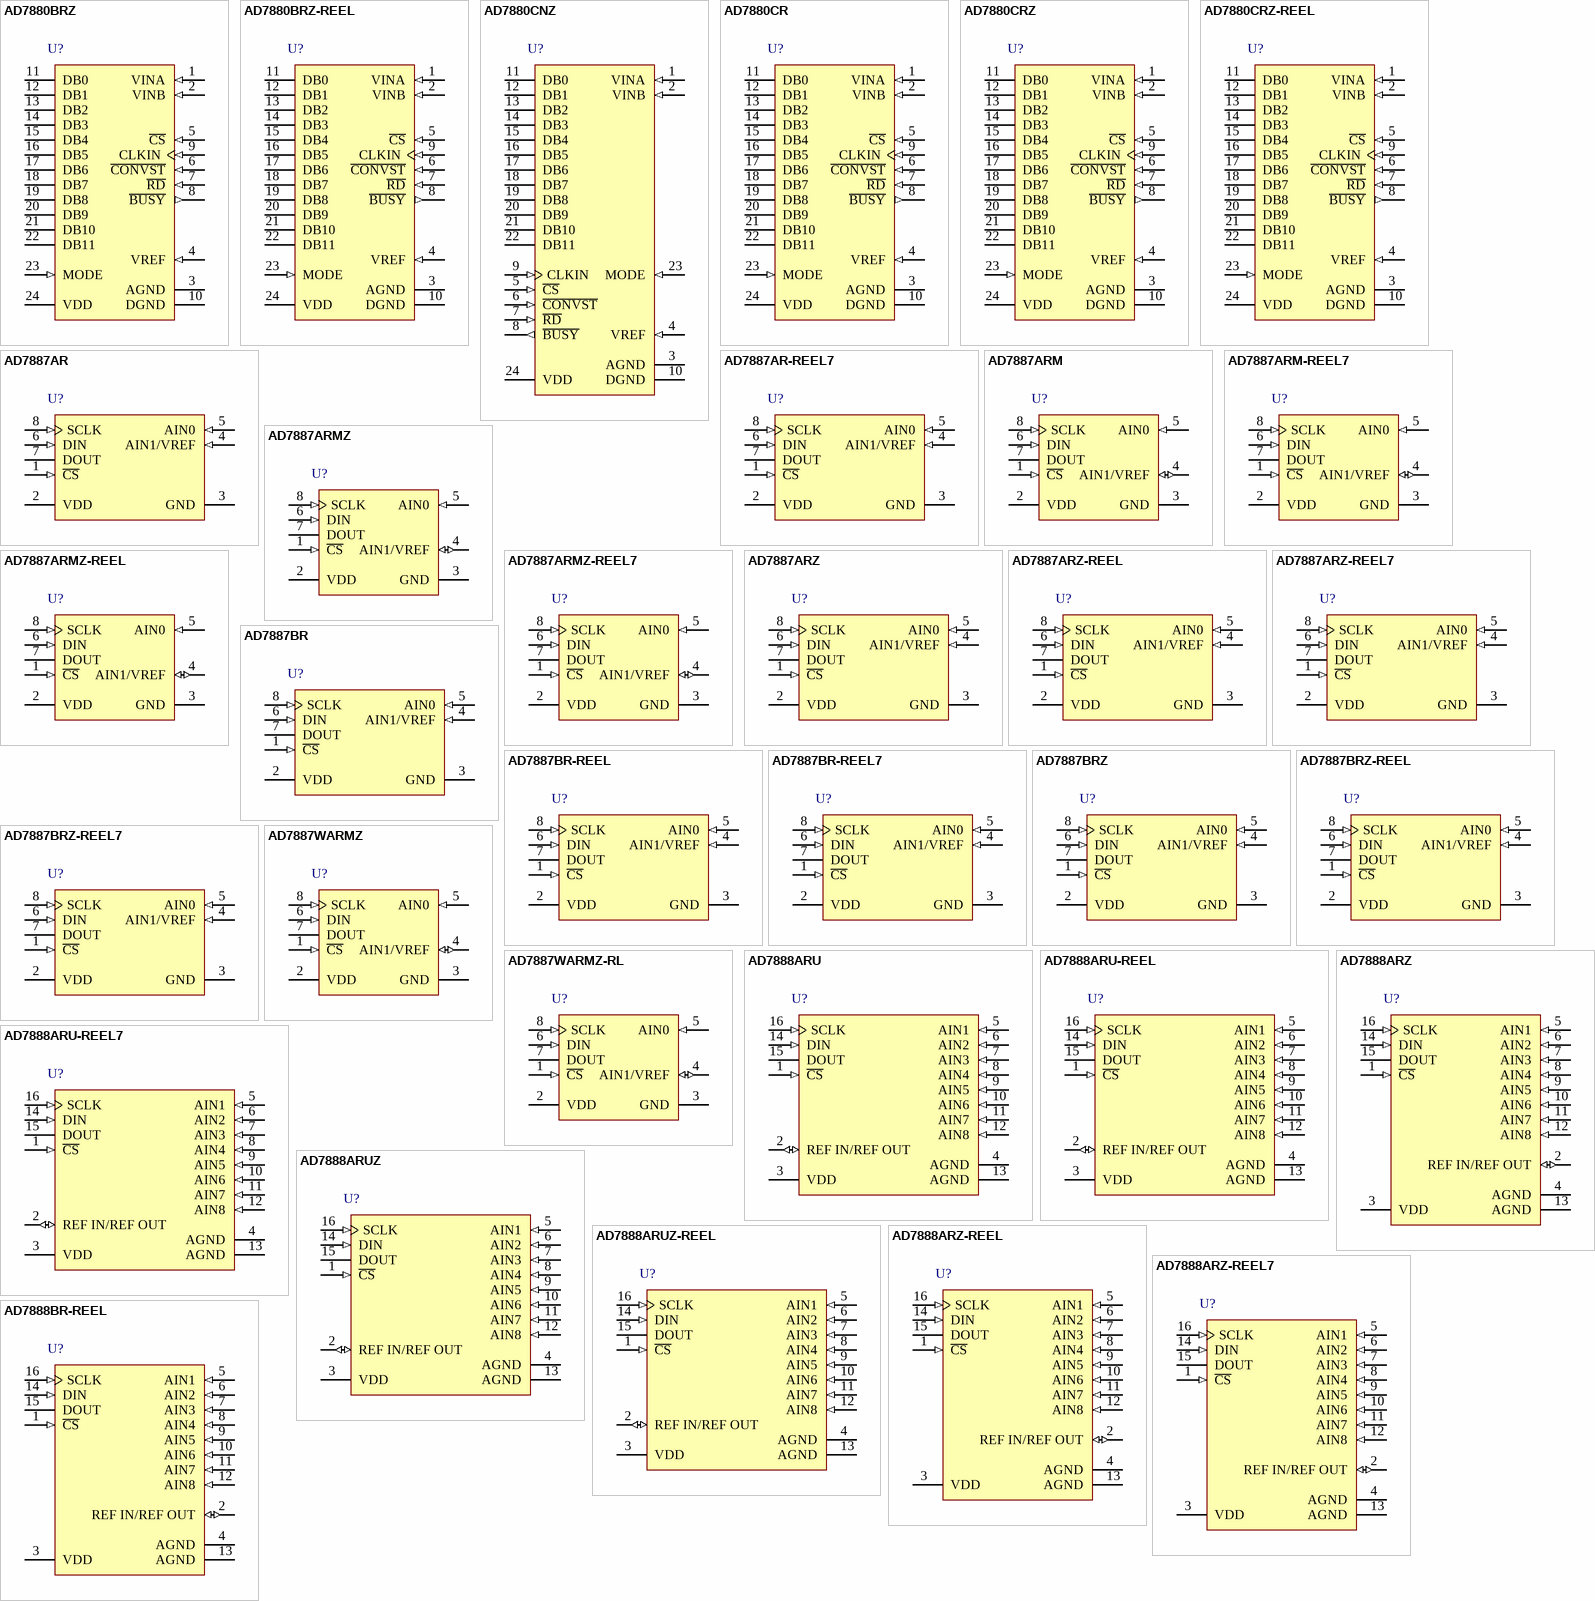
[diagram p78: symbols AD7880BRZ to AD7888BR-REEL]